# Altium schematic symbol library Capacitors Special.SchLib: 1 symbol
Pins are listed as number, name and electrical type; pins without a type are passive.

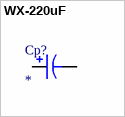
[diagram p0: symbol WX-220uF]

## WX-220uF
designator Cp?
Aluminum Electrolytic Capacitors; Manufacturer: Nichicon; Manufacturer P/N: UWX1A221MCL1GB; Vendor: Digi-Key; Vendor P/N: 493-2098-1-ND; Value: 220uF; Price: 0.2364; ComponentLink1URL: C:\Altium Custom Library\Standard Components\Data Sheets\e-wx.pdf; ComponentLink1Description: Data Sheet
footprint 8x8 SMT Pol Cap
pins: 1, 2